# Altium footprint library ARMflash_C_V5_1.PcbLib: 72 footprints (part 4 of 5)
Each footprint in its own frame and in the unit in brackets; x right, y up, seen from the top. Pads: shape width x height; smd on the part's side, far side on the other; paste and mask are expansions set on the pad; w line width, h text height; cw(c..) or ccw(c..) is an arc to the next point about the centre after c.
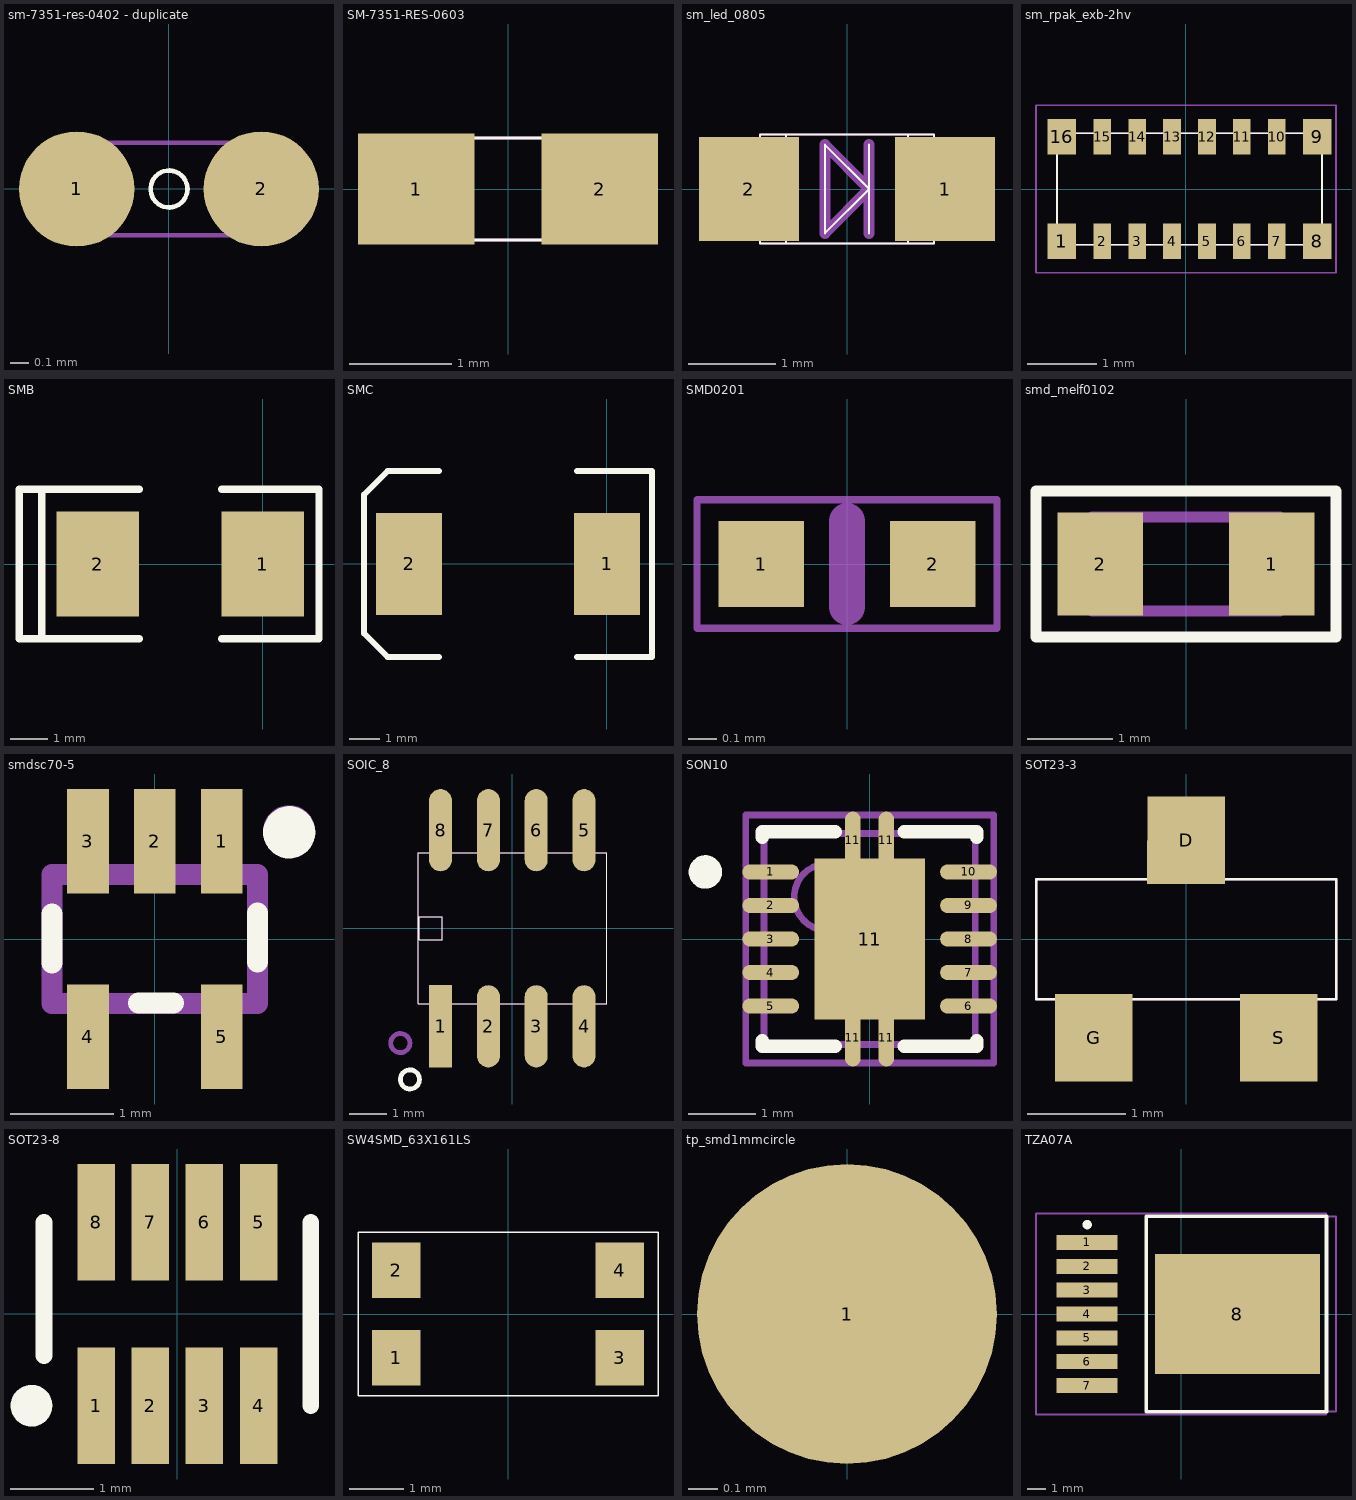
[diagram p3: the footprints below, top view; thin cyan lines are the x and y axes]

## sm-7351-res-0402 - duplicate [mil]
pads (2):
  round 25 smd paste-0.39: 1(-20,0) 2(20,0)
Top Overlay:
  circle w1: c0,0 r4
Mechanical 16:
  lines w1: -20,-10 -20,10 20,10 20,-10 -20,-10

## SM-7351-RES-0603 [mil] "SM-7351-RES-0603"
pads (2):
  rect 45x43 smd paste-1.18: 1(-35.43,0) 2(35.43,0)
Top Overlay:
  lines w1: -35.43,-19.69 -35.43,19.69 35.43,19.69 35.43,-19.69 -35.43,-19.69
Mechanical 16:
  lines w1: -35.43,-19.69 -35.43,19.69 35.43,19.69 35.43,-19.69 -35.43,-19.69

## sm_led_0805 [mil] "SM_LED_0805"
pads (2):
  rect 45.28x47 smd paste-1.18: 1(44.29,0) 2(-44.29,0)
Top Overlay:
  lines w1: 10,-20 10,20 ; -39.37,-24.61 -39.37,24.61 39.37,24.61 39.37,-24.61 -39.37,-24.61 ; -27.56,-24.61 -27.56,24.61 27.56,24.61 27.56,-24.61 -27.56,-24.61 ; -10,-20 10,0 -10,20 -10,-20
Mechanical 16:
  lines w1: -39.37,-24.61 -39.37,24.61 39.37,24.61 39.37,-24.61 -39.37,-24.61 ; -27.56,-24.61 -27.56,24.61 27.56,24.61 27.56,-24.61 -27.56,-24.61
  lines w5: 10,-20 10,20 ; -10,-20 10,0 -10,20 -10,-20
  text "1" at 24.13,0 h25.2
  text "2" at -64.45,0 h25.2

## sm_rpak_exb-2hv [mil] "SM_RPAK_EXB-2HV"
pads (16):
  rect 16x20 smd paste-1.18 mask+1.18: 1(-70.08,-29.53) 8(74.02,-29.53) 9(74.02,29.53) 16(-70.08,29.53)
  rect 10x20 smd paste-0.39 mask+1.18: 2(-47.24,-29.53) 3(-27.56,-29.53) 4(-7.87,-29.53) 5(11.81,-29.53) 6(31.5,-29.53) 7(51.18,-29.53) 10(51.18,29.53) 11(31.5,29.53) 12(11.81,29.53) 13(-7.87,29.53) 14(-27.56,29.53) 15(-47.24,29.53)
Top Overlay:
  lines w1: -72.83,-31.5 -72.83,31.5 76.77,31.5 76.77,-31.5 -72.83,-31.5
Mechanical 16:
  lines w1: -84.64,-47.24 -84.64,47.24 84.65,47.24 84.65,-47.24 -84.64,-47.24 ; -72.83,-31.5 -72.83,31.5 76.77,31.5 76.77,-31.5 -72.83,-31.5
  text "16" at -56.82,48.28 h25
  text "9" at 116.18,7.28 h25
  text "8" at 82.18,-62.72 h25
  text "1" at -58.82,-62.72 h25

## SMB [mm] "SMB Diode"
height 2.6
pads (2):
  rect 2.2x2.8 smd paste-0.03: 1(0,0) 2(-4.4,0)
Top Overlay:
  lines w0.2: -5.9,-2 -5.9,2 ; -3.3,-2 -6.5,-2 -6.5,2 -3.3,2 ; -1.1,-2 1.5,-2 1.5,2 -1.1,2

## SMC [mm]
pads (2):
  rect 2.2x3.4 smd paste-0.03: 1(0,0) 2(-6.6,0)
Top Overlay:
  lines w0.2: -5.6,-3.1 -7.314,-3.1 -8.1,-2.314 -8.1,2.314 -7.314,3.1 -5.6,3.1 ; -1,-3.1 1.5,-3.1 1.5,3.1 -1,3.1 ; 1.5,-2.7 1.5,2.7

## SMD0201 [mm] "SMD0201"
pads (2):
  rect 0.3x0.3 smd paste-0.03 mask+0.03: 1(-0.3,0) 2(0.3,0)
Mechanical 16:
  lines w0.025: -0.525,-0.225 -0.525,0.225 0.525,0.225 0.525,-0.225 -0.525,-0.225
  lines w0.127: 0,-0.15 0,0.15

## smd_melf0102 [mm] "SMD_MELF0102"
pads (2):
  rect 1x1.2 smd paste-0.03: 1(1,0) 2(-1,0)
Top Overlay:
  lines w0.127: -1.754,-0.854 -1.754,0.854 1.754,0.854 1.754,-0.854 -1.754,-0.854
Mechanical 16:
  lines w0.127: -1.1,-0.55 -1.1,0.55 1.1,0.55 1.1,-0.55 -1.1,-0.55
  text "1" at 0.746,0 h0.64
  text "2" at -1.254,0 h0.64

## smdsc70-5 [mil] "SMDSC70-5"
pads (5):
  rect 16x40 smd paste-1.18 mask+1.18: 1(25.59,37.4) 2(0,37.4) 3(-25.59,37.4)
  rect 16x40 smd paste-1.18: 4(-25.59,-37.4) 5(25.59,-37.4)
Top Overlay:
  circle w10: c51.45,40.82 r5
  lines w8: -39.4,-9.22 -39.4,9.61 ; -6.18,-24.52 7.17,-24.52 ; 39.34,-8.81 39.34,10.02
Mechanical 16:
  circle w10: c51.39,41.16 r5
  lines w8: -39.37,-24.61 -39.37,24.61 39.37,24.61 39.37,-24.61 -39.37,-24.61

## SOIC_8 [mil] "SOIC_8"
pads (8):
  rect 24x86 smd paste-1.18: 1(-75,-102.5)
  oval 24x86 smd paste-1.18: 2(-25,-102.5) 3(25,-102.5) 4(75,-102.5) 5(75,102.5) 6(25,102.5) 7(-25,102.5) 8(-75,102.5)
Top Overlay:
  circle w5: c-107,-158 r10
  lines w1: -98.5,-79 -98.5,79 98.5,79 98.5,-79 -98.5,-79 ; -97,-12 -97,12 -73,12 -73,-12 -97,-12
Mechanical 16:
  circle w5: c-117,-120 r10
  lines w1: -98.5,-79 -98.5,79 98.5,79 98.5,-79 -98.5,-79 ; -97,-12 -97,12 -73,12 -73,-12 -97,-12
  text "4" at 64.92,-102.5 h25.2
  text "3" at 14.92,-102.5 h25.2
  text "2" at -35.08,-102.5 h25.2
  text "1" at -85.08,-102.5 h25.2
  text "7" at -35.08,102.5 h25.2
  text "8" at -85.08,102.5 h25.2
  text "6" at 14.92,102.5 h25.2
  text "5" at 64.92,102.5 h25.2

## SON10 [mm] "Plastic small outline PVSON-N10 Texas Instruments"
height 1
pads (15):
  oval 0.85x0.23 smd paste-0.01 mask+0.05: 1(-1.475,1) 2(-1.475,0.5) 3(-1.475,0) 4(-1.475,-0.5) 5(-1.475,-1) 6(1.475,-1) 7(1.475,-0.5) 8(1.475,0) 9(1.475,0.5) 10(1.475,1)
  oval 0.23x0.85 smd paste-0.01 mask+0.05: 11(-0.25,-1.475) 11(-0.25,1.475) 11(0.25,-1.475) 11(0.25,1.475)
  rect 1.65x2.4 smd paste-0.03 mask+0.05: 11(0,0)
Top Overlay:
  circle w0.25: c-2.45,1 r0.125
  lines w0.2: -1.6,-1.515 -1.6,-1.6 -0.515,-1.6 ; -1.6,1.515 -1.6,1.6 -0.515,1.6 ; 0.515,-1.6 1.6,-1.6 1.6,-1.515 ; 0.515,1.6 1.6,1.6 1.6,1.515
Mechanical 13:
  circle w0.1: c-0.625,0.625 r0.5
  lines w0.1: -1.575,-1.575 -1.575,1.575 1.575,1.575 1.575,-1.575 -1.575,-1.575
Mechanical 15:
  lines w0.1: -0.5,0 0.5,0 ; 0,-0.5 0,0.5 ; -1.85,-1.85 -1.85,1.85 1.85,1.85 1.85,-1.85 -1.85,-1.85
3D body: height 1, standoff 0.02, extent -1.575,-1.575 1.575,1.575

## SOT23-3 [mil] "SOT23-3"
pads (3):
  rect 31x35 smd paste-1.18: D(0,39.5) G(-37,-39.5) S(37,-39.5)
Top Overlay:
  lines w1: -60,-24 -60,24 60,24 60,-24 -60,-24
Mechanical 16:
  lines w1: -60,-24 -60,24 60,24 60,-24 -60,-24
  text "S" at 37,-51.47 h29.92
  text "G" at -37,-51.47 h29.92
  text "D" at 0,27.53 h29.92

## SOT23-8 [mm]
pads (8):
  rect 0.45x1.4 smd paste-0.03 mask+0.03: 1(-0.975,-1.1) 2(-0.325,-1.1) 3(0.325,-1.1) 4(0.975,-1.1) 5(0.975,1.1) 6(0.325,1.1) 7(-0.325,1.1) 8(-0.975,1.1)
Top Overlay:
  circle w0.25: c-1.75,-1.1 r0.125
  lines w0.2: -1.6,-0.5 -1.6,1.1 ; 1.6,-1.1 1.6,1.1

## SW4SMD_63X161LS [mil] "SW4SMD_63X161LS"
pads (4):
  rect 35x40 smd paste-1.18 mask+2: 1(-80.71,-31.5) 2(-80.71,31.5) 3(80.71,-31.5) 4(80.71,31.5)
Top Overlay:
  lines w1: -108.27,-59.06 108.27,-59.06 108.27,59.06 -108.27,59.06 -108.27,-59.06

## tp_smd1mmcircle [mil] "TP_SMD1MMCIRCLE"
pads (1):
  round 40 smd paste-0.39: 1(0,0)
Mechanical 16:
  region: 10,10 10,-10 -10,-10 -10,10

## TZA07A [mm]
pads (8):
  rect 3.25x0.8 smd paste-0.03: 1(-5,3.81) 2(-5,2.54) 3(-5,1.27) 4(-5,0) 5(-5,-1.27) 6(-5,-2.54) 7(-5,-3.81)
  rect 8.8x6.4 smd paste-0.03: 8(3,0)
Top Overlay:
  circle w0.25: c-5,4.76 r0.125
  lines w0.2: -1.85,-5.2 -1.85,5.2 -1.8,5.2 7.75,5.2 7.75,-5.2 -1.8,-5.2 -1.85,-5.2
Mechanical 13:
  lines w0.1: -1.85,-5.2 8.25,-5.2 8.25,5.2 -1.85,5.2 -1.85,-5.2
Mechanical 15:
  lines w0.1: -0.5,0 0.5,0 ; 0,-0.5 0,0.5 ; -7.725,-5.35 7.725,-5.35 7.725,5.35 -7.725,5.35 -7.725,-5.35
3D body: height 4.67, standoff 0, extent -1.85,-5.2 8.25,5.2